# EAGLE library part USB-MICRO-B-SMD (library reclone-rise)
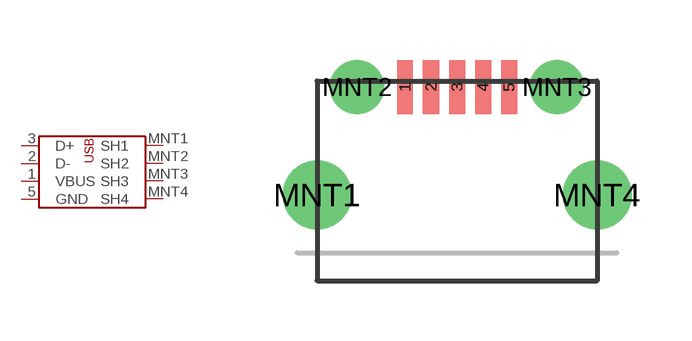
[diagram p7: symbol with the pads of USB-MICRO-B-SMD; footprint USB-MICRO-B-SMD]

Designator prefix -

## USB-MICRO-B-SMD  [USB-MICRO-B-SMD]
1  VBUS
2  D-
3  D+
5  GND
MNT1  SH1
MNT2  SH2
MNT3  SH3
MNT4  SH4

## Footprint USB-MICRO-B-SMD (pad centres in mm)
smd 0.4 x 1.35: 1 -1.3,4.15; 2 -0.65,4.15; 3 0,4.15; 4 0.65,4.15; 5 1.3,4.15
drill 1.15: MNT1 -3.5,1.45; MNT4 3.5,1.45
drill 0.85: MNT2 -2.5,4.15; MNT3 2.5,4.15